# Altium integrated library TI_Logic_Flip-Flop,Latch,Register.IntLib: 2598 symbols (part 118 of 122)
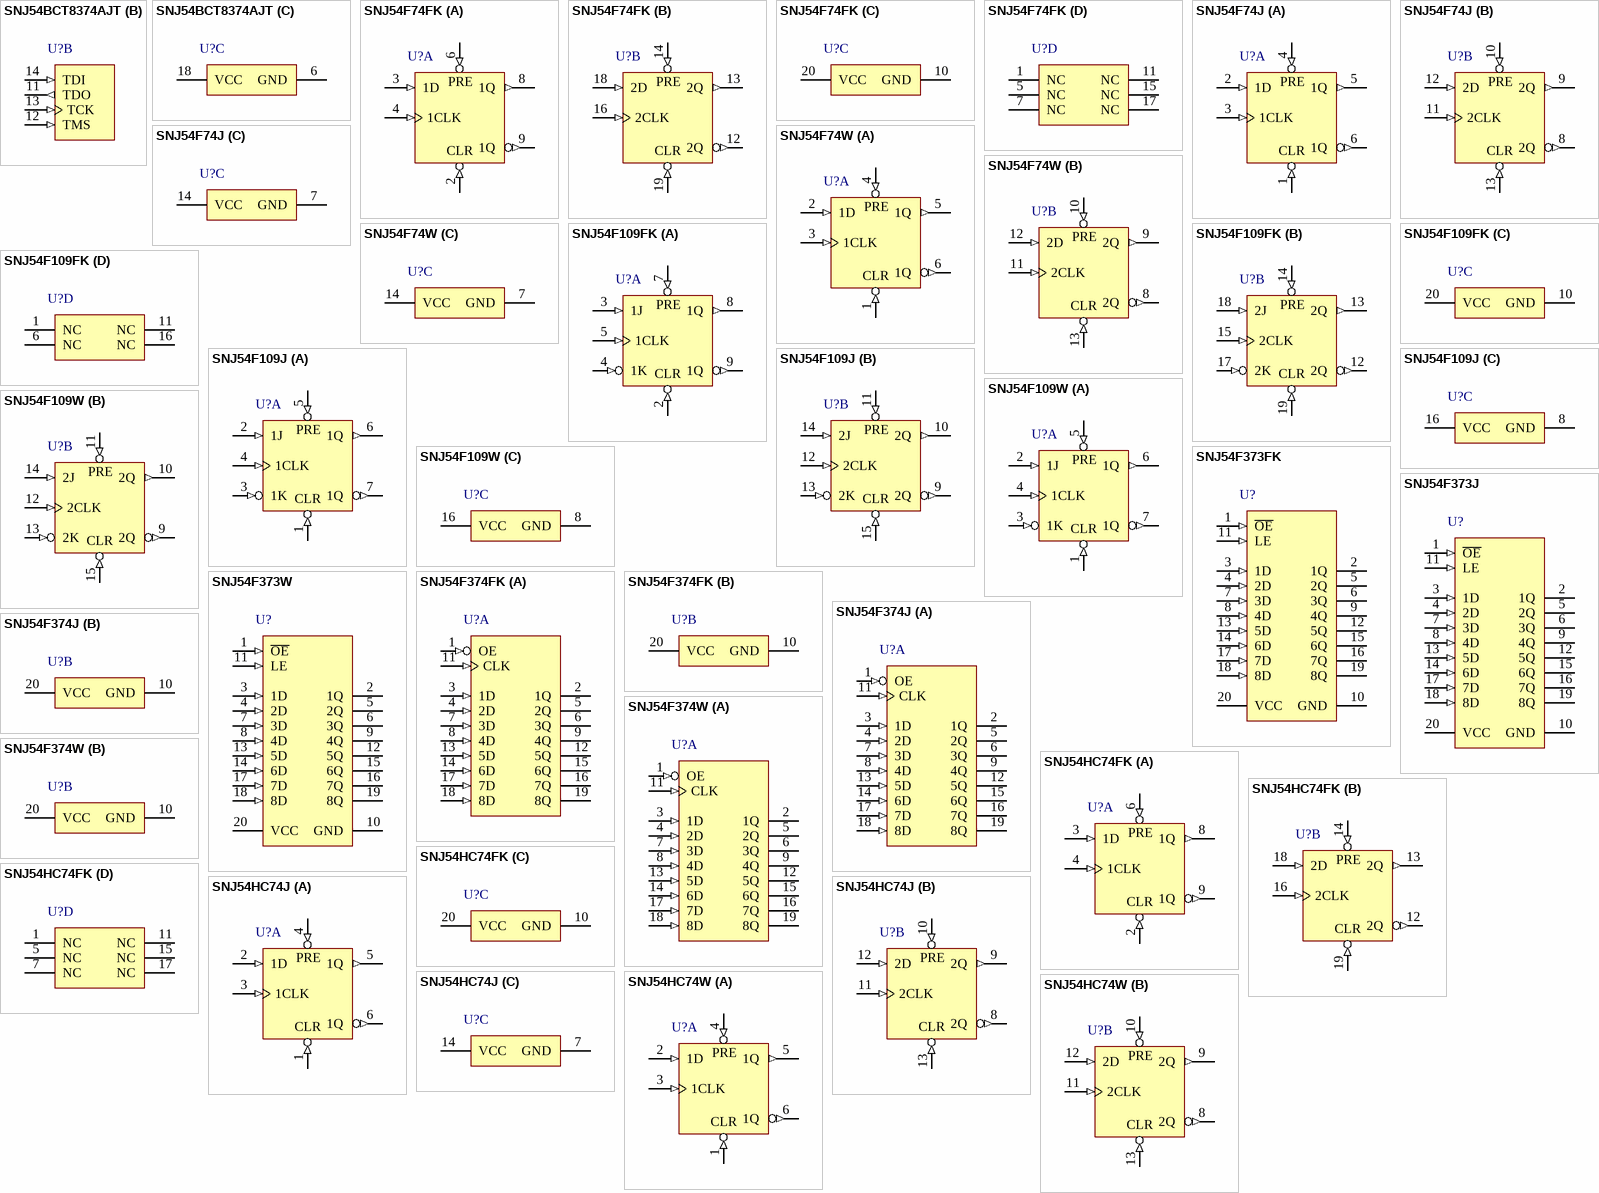
[diagram p256: symbols SNJ54BCT8374AJT to SNJ54HC74W]

## SNJ54HC74FK
designator U?
Dual D-type Positive-Edge-Triggered Flip-Flops With Clear And Preset, FK0020A, TUBE; Generic Part Number: SN54HC74; Manufacturer: Texas Instruments; PartNumber: SNJ54HC74FK; VCC(Min)(V): 2; VCC(Max)(V): 6; Output Type: CMOS; Output: 3S; ICC @ Nom Voltage(Max)(mA): 0.04; F @ Nom Voltage(Max)(Mhz): 28; Rating: Military; Technology Family: HC; Voltage(Nom)(V): 3.3,5; Schmitt Trigger: No; Output Drive (IOL/IOH)(Max)(mA): 5.2/-5.2; Output Logic: Inverted,Non-inverted; tpd @ Nom Voltage(Max)(ns): 37; DatasheetVersion: SCLS094D; PackageReference: FK0020A; Input Type: CMOS; Bits(#): 2; Operating Temperature Range(C): -55 to 125; 3-State Output: No; Code_JEDEC: MS-004; ComponentLink1Description: Manufacturer URL; ComponentLink1URL: http://www.ti.com/; ComponentLink2Description: Datasheet; ComponentLink2URL: http://www.ti.com/lit/ds/symlink/sn54hc74.pdf; ComponentLink3Description: Package Specification; ComponentLink3URL: http://www.ti.com/lit/ml/mlcc006d/mlcc006d.pdf
footprint FK0020A_N (LCC, 20-Leads, Body 8.9x8.9mm, Pitch 1.27mm, IPC Medium Density)
footprint FK0020A_M (LCC, 20-Leads, Body 8.9x8.9mm, Pitch 1.27mm, IPC Low Density)
footprint FK0020A_L (LCC, 20-Leads, Body 8.9x8.9mm, Pitch 1.27mm, IPC High Density)
part A pins: 2 1~{CLR} (in), 3 1D (in), 4 1CLK (in), 6 1~{PRE} (in), 8 1Q (out), 9 1Q (out)
part B pins: 12 2Q (out), 13 2Q (out), 14 2~{PRE} (in), 16 2CLK (in), 18 2D (in), 19 2~{CLR} (in)
part C pins: 10 GND (power), 20 VCC (power)
part D pins: 1 NC, 5 NC, 7 NC, 11 NC, 15 NC, 17 NC
part A text: PRE; CLR
part B text: PRE; CLR

## SNJ54HC74J
designator U?
Dual D-type Positive-Edge-Triggered Flip-Flops With Clear And Preset, J0014A, TUBE; Generic Part Number: SN54HC74; Manufacturer: Texas Instruments; PartNumber: SNJ54HC74J; VCC(Min)(V): 2; VCC(Max)(V): 6; Output Type: CMOS; Output: 3S; ICC @ Nom Voltage(Max)(mA): 0.04; F @ Nom Voltage(Max)(Mhz): 28; Rating: Military; Technology Family: HC; Voltage(Nom)(V): 3.3,5; Schmitt Trigger: No; Output Drive (IOL/IOH)(Max)(mA): 5.2/-5.2; Output Logic: Inverted,Non-inverted; tpd @ Nom Voltage(Max)(ns): 37; DatasheetVersion: SCLS094D; PackageReference: J0014A; Supplier 1: Newark; Supplier Part Number 1: 92B9591; Input Type: CMOS; Bits(#): 2; Operating Temperature Range(C): -55 to 125; 3-State Output: No; ComponentLink1Description: Manufacturer URL; ComponentLink1URL: http://www.ti.com/; ComponentLink2Description: Datasheet; ComponentLink2URL: http://www.ti.com/lit/ds/symlink/sn54hc74.pdf; ComponentLink3Description: Package Specification; ComponentLink3URL: http://www.ti.com/lit/ml/mcer002d/mcer002d.pdf
footprint J0014A (DIP, 14-Leads, Body 19.95x7.2mm, Pitch 2.54mm)
part A pins: 1 1~{CLR} (in), 2 1D (in), 3 1CLK (in), 4 1~{PRE} (in), 5 1Q (out), 6 1Q (out)
part B pins: 8 2Q (out), 9 2Q (out), 10 2~{PRE} (in), 11 2CLK (in), 12 2D (in), 13 2~{CLR} (in)
part C pins: 7 GND (power), 14 VCC (power)
part A text: PRE; CLR
part B text: PRE; CLR

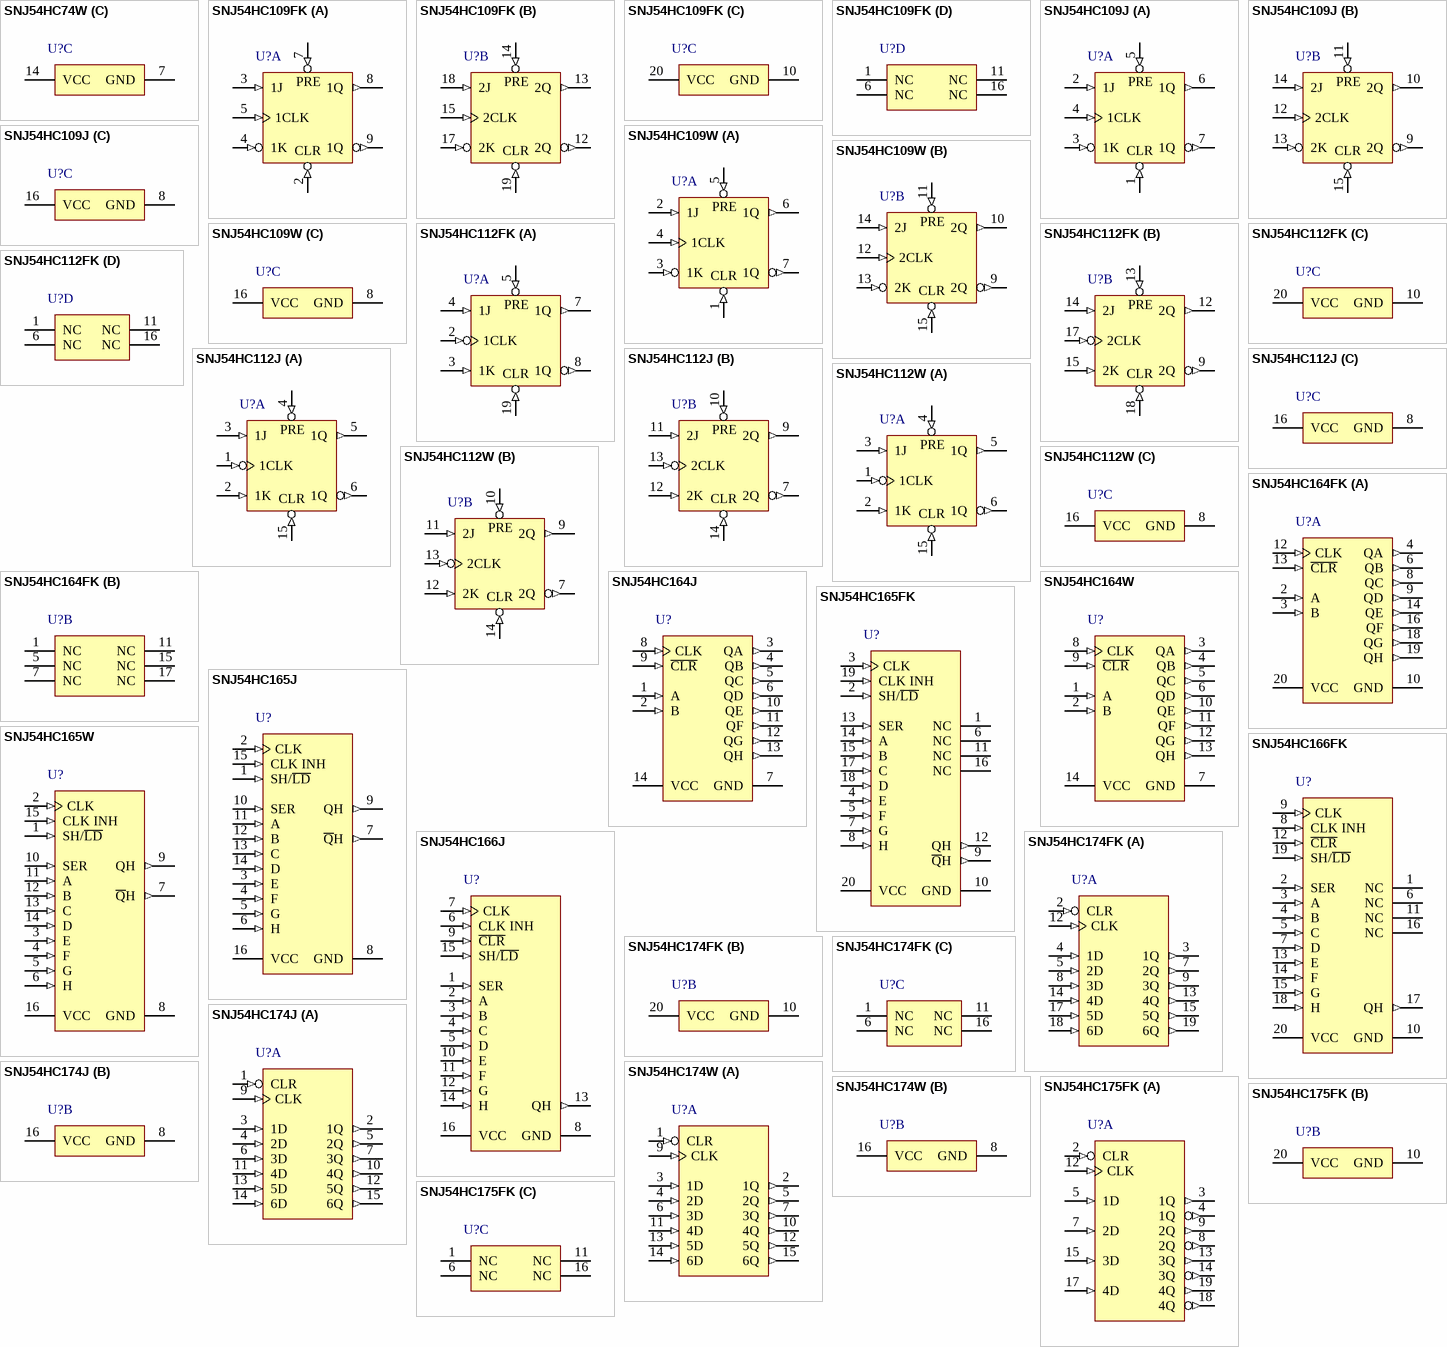
[diagram p131: symbols SNJ54HC74W to SNJ54HC175FK]

## SNJ54HC74W
designator U?
Dual D-type Positive-Edge-Triggered Flip-Flops With Clear And Preset, W0014A, TUBE; Generic Part Number: SN54HC74; Manufacturer: Texas Instruments; PartNumber: SNJ54HC74W; VCC(Min)(V): 2; VCC(Max)(V): 6; Output Type: CMOS; Output: 3S; ICC @ Nom Voltage(Max)(mA): 0.04; F @ Nom Voltage(Max)(Mhz): 28; Rating: Military; Technology Family: HC; Voltage(Nom)(V): 3.3,5; Schmitt Trigger: No; Output Drive (IOL/IOH)(Max)(mA): 5.2/-5.2; Output Logic: Inverted,Non-inverted; tpd @ Nom Voltage(Max)(ns): 37; DatasheetVersion: SCLS094D; PackageReference: W0014A; Input Type: CMOS; Bits(#): 2; Operating Temperature Range(C): -55 to 125; 3-State Output: No; ComponentLink1Description: Manufacturer URL; ComponentLink1URL: http://www.ti.com/; ComponentLink2Description: Datasheet; ComponentLink2URL: http://www.ti.com/lit/ds/symlink/sn54hc74.pdf; ComponentLink3Description: Package Specification; ComponentLink3URL: http://www.ti.com/lit/ml/mcfp002c/mcfp002c.pdf
footprint W0014A_N (CFP, 14-Leads, Body 9.91x6.6mm, Pitch 1.27mm, IPC Medium Density)
footprint W0014A_M (CFP, 14-Leads, Body 9.91x6.6mm, Pitch 1.27mm, IPC Low Density)
footprint W0014A_L (CFP, 14-Leads, Body 9.91x6.6mm, Pitch 1.27mm, IPC High Density)
part A pins: 1 1~{CLR} (in), 2 1D (in), 3 1CLK (in), 4 1~{PRE} (in), 5 1Q (out), 6 1Q (out)
part B pins: 8 2Q (out), 9 2Q (out), 10 2~{PRE} (in), 11 2CLK (in), 12 2D (in), 13 2~{CLR} (in)
part C pins: 7 GND (power), 14 VCC (power)
part A text: PRE; CLR
part B text: PRE; CLR

## SNJ54HC109FK
designator U?
Dual J-K Positive-Edge-Triggered Flip-Flops With Clear And Preset, FK0020A, TUBE; Generic Part Number: SN54HC109; Manufacturer: Texas Instruments; PartNumber: SNJ54HC109FK; VCC(Min)(V): 2; VCC(Max)(V): 6; Output Type: CMOS; Output: 2S; Rating: Military; Technology Family: HC; Schmitt Trigger: No; DatasheetVersion: SCLS470A; PackageReference: FK0020A; Input Type: CMOS; Bits(#): 2; Operating Temperature Range(C): -55 to 125; Code_JEDEC: MS-004; ComponentLink1Description: Manufacturer URL; ComponentLink1URL: http://www.ti.com/; ComponentLink2Description: Datasheet; ComponentLink2URL: http://www.ti.com/lit/ds/symlink/sn54hc109.pdf; ComponentLink3Description: Package Specification; ComponentLink3URL: http://www.ti.com/lit/ml/mlcc006d/mlcc006d.pdf
footprint FK0020A_N (LCC, 20-Leads, Body 8.9x8.9mm, Pitch 1.27mm, IPC Medium Density)
footprint FK0020A_M (LCC, 20-Leads, Body 8.9x8.9mm, Pitch 1.27mm, IPC Low Density)
footprint FK0020A_L (LCC, 20-Leads, Body 8.9x8.9mm, Pitch 1.27mm, IPC High Density)
part A pins: 2 1~{CLR} (in), 3 1J (in), 4 1K (in), 5 1CLK (in), 7 1~{PRE} (in), 8 1Q (out), 9 1Q (out)
part B pins: 12 2Q (out), 13 2Q (out), 14 2~{PRE} (in), 15 2CLK (in), 17 2K (in), 18 2J (in), 19 2~{CLR} (in)
part C pins: 10 GND (power), 20 VCC (power)
part D pins: 1 NC, 6 NC, 11 NC, 16 NC
part A text: PRE; CLR
part B text: PRE; CLR

## SNJ54HC109J
designator U?
Dual J-K Positive-Edge-Triggered Flip-Flops With Clear And Preset, J0016A, TUBE; Generic Part Number: SN54HC109; Manufacturer: Texas Instruments; PartNumber: SNJ54HC109J; VCC(Min)(V): 2; VCC(Max)(V): 6; Output Type: CMOS; Output: 2S; Rating: Military; Technology Family: HC; Schmitt Trigger: No; DatasheetVersion: SCLS470A; PackageReference: J0016A; Input Type: CMOS; Bits(#): 2; Operating Temperature Range(C): -55 to 125; ComponentLink1Description: Manufacturer URL; ComponentLink1URL: http://www.ti.com/; ComponentLink2Description: Datasheet; ComponentLink2URL: http://www.ti.com/lit/ds/symlink/sn54hc109.pdf; ComponentLink3Description: Package Specification; ComponentLink3URL: http://www.ti.com/lit/ml/mcer002d/mcer002d.pdf
footprint J0016A (DIP, 16-Leads, Body 21.35x7.2mm, Pitch 2.54mm)
part A pins: 1 1~{CLR} (in), 2 1J (in), 3 1K (in), 4 1CLK (in), 5 1~{PRE} (in), 6 1Q (out), 7 1Q (out)
part B pins: 9 2Q (out), 10 2Q (out), 11 2~{PRE} (in), 12 2CLK (in), 13 2K (in), 14 2J (in), 15 2~{CLR} (in)
part C pins: 8 GND (power), 16 VCC (power)
part A text: PRE; CLR
part B text: PRE; CLR

## SNJ54HC109W
designator U?
Dual J-K Positive-Edge-Triggered Flip-Flops With Clear And Preset, W0016A, TUBE; Generic Part Number: SN54HC109; Manufacturer: Texas Instruments; PartNumber: SNJ54HC109W; VCC(Min)(V): 2; VCC(Max)(V): 6; Output Type: CMOS; Output: 2S; Rating: Military; Technology Family: HC; Schmitt Trigger: No; DatasheetVersion: SCLS470A; PackageReference: W0016A; Input Type: CMOS; Bits(#): 2; Operating Temperature Range(C): -55 to 125; ComponentLink1Description: Manufacturer URL; ComponentLink1URL: http://www.ti.com/; ComponentLink2Description: Datasheet; ComponentLink2URL: http://www.ti.com/lit/ds/symlink/sn54hc109.pdf; ComponentLink3Description: Package Specification; ComponentLink3URL: http://www.ti.com/lit/ml/mcfp004c/mcfp004c.pdf
footprint W0016A_N (CFP, 16-Leads, Body 10.92x7.24mm, Pitch 1.27mm, IPC Medium Density)
footprint W0016A_M (CFP, 16-Leads, Body 10.92x7.24mm, Pitch 1.27mm, IPC Low Density)
footprint W0016A_L (CFP, 16-Leads, Body 10.92x7.24mm, Pitch 1.27mm, IPC High Density)
part A pins: 1 1~{CLR} (in), 2 1J (in), 3 1K (in), 4 1CLK (in), 5 1~{PRE} (in), 6 1Q (out), 7 1Q (out)
part B pins: 9 2Q (out), 10 2Q (out), 11 2~{PRE} (in), 12 2CLK (in), 13 2K (in), 14 2J (in), 15 2~{CLR} (in)
part C pins: 8 GND (power), 16 VCC (power)
part A text: PRE; CLR
part B text: PRE; CLR

## SNJ54HC112FK
designator U?
Dual J-K Negative-Edge-Triggered Flip-Flops With Clear And Preset, FK0020A, TUBE; Generic Part Number: SN54HC112; Manufacturer: Texas Instruments; PartNumber: SNJ54HC112FK; VCC(Min)(V): 2; VCC(Max)(V): 6; Output Type: CMOS; Output: 2S; Rating: Military; Technology Family: HC; Schmitt Trigger: No; DatasheetVersion: SCLS099F; PackageReference: FK0020A; Input Type: CMOS; Bits(#): 2; Operating Temperature Range(C): -55 to 125; Code_JEDEC: MS-004; ComponentLink1Description: Manufacturer URL; ComponentLink1URL: http://www.ti.com/; ComponentLink2Description: Datasheet; ComponentLink2URL: http://www.ti.com/lit/ds/symlink/sn54hc112.pdf; ComponentLink3Description: Package Specification; ComponentLink3URL: http://www.ti.com/lit/ml/mlcc006d/mlcc006d.pdf
footprint FK0020A_N (LCC, 20-Leads, Body 8.9x8.9mm, Pitch 1.27mm, IPC Medium Density)
footprint FK0020A_M (LCC, 20-Leads, Body 8.9x8.9mm, Pitch 1.27mm, IPC Low Density)
footprint FK0020A_L (LCC, 20-Leads, Body 8.9x8.9mm, Pitch 1.27mm, IPC High Density)
part A pins: 2 1CLK (in), 3 1K (in), 4 1J (in), 5 1~{PRE} (in), 7 1Q (out), 8 1Q (out), 19 1~{CLR} (in)
part B pins: 9 2Q (out), 12 2Q (out), 13 2~{PRE} (in), 14 2J (in), 15 2K (in), 17 2CLK (in), 18 2~{CLR} (in)
part C pins: 10 GND (power), 20 VCC (power)
part D pins: 1 NC, 6 NC, 11 NC, 16 NC
part A text: PRE; CLR
part B text: PRE; CLR

## SNJ54HC112J
designator U?
Dual J-K Negative-Edge-Triggered Flip-Flops With Clear And Preset, J0016A, TUBE; Generic Part Number: SN54HC112; Manufacturer: Texas Instruments; PartNumber: SNJ54HC112J; VCC(Min)(V): 2; VCC(Max)(V): 6; Output Type: CMOS; Output: 2S; Rating: Military; Technology Family: HC; Schmitt Trigger: No; DatasheetVersion: SCLS099F; PackageReference: J0016A; Input Type: CMOS; Bits(#): 2; Operating Temperature Range(C): -55 to 125; ComponentLink1Description: Manufacturer URL; ComponentLink1URL: http://www.ti.com/; ComponentLink2Description: Datasheet; ComponentLink2URL: http://www.ti.com/lit/ds/symlink/sn54hc112.pdf; ComponentLink3Description: Package Specification; ComponentLink3URL: http://www.ti.com/lit/ml/mcer002d/mcer002d.pdf
footprint J0016A (DIP, 16-Leads, Body 21.35x7.2mm, Pitch 2.54mm)
part A pins: 1 1CLK (in), 2 1K (in), 3 1J (in), 4 1~{PRE} (in), 5 1Q (out), 6 1Q (out), 15 1~{CLR} (in)
part B pins: 7 2Q (out), 9 2Q (out), 10 2~{PRE} (in), 11 2J (in), 12 2K (in), 13 2CLK (in), 14 2~{CLR} (in)
part C pins: 8 GND (power), 16 VCC (power)
part A text: PRE; CLR
part B text: PRE; CLR

## SNJ54HC112W
designator U?
Dual J-K Negative-Edge-Triggered Flip-Flops With Clear And Preset, W0016A, TUBE; Generic Part Number: SN54HC112; Manufacturer: Texas Instruments; PartNumber: SNJ54HC112W; VCC(Min)(V): 2; VCC(Max)(V): 6; Output Type: CMOS; Output: 2S; Rating: Military; Technology Family: HC; Schmitt Trigger: No; DatasheetVersion: SCLS099F; PackageReference: W0016A; Input Type: CMOS; Bits(#): 2; Operating Temperature Range(C): -55 to 125; ComponentLink1Description: Manufacturer URL; ComponentLink1URL: http://www.ti.com/; ComponentLink2Description: Datasheet; ComponentLink2URL: http://www.ti.com/lit/ds/symlink/sn54hc112.pdf; ComponentLink3Description: Package Specification; ComponentLink3URL: http://www.ti.com/lit/ml/mcfp004c/mcfp004c.pdf
footprint W0016A_N (CFP, 16-Leads, Body 10.92x7.24mm, Pitch 1.27mm, IPC Medium Density)
footprint W0016A_M (CFP, 16-Leads, Body 10.92x7.24mm, Pitch 1.27mm, IPC Low Density)
footprint W0016A_L (CFP, 16-Leads, Body 10.92x7.24mm, Pitch 1.27mm, IPC High Density)
part A pins: 1 1CLK (in), 2 1K (in), 3 1J (in), 4 1~{PRE} (in), 5 1Q (out), 6 1Q (out), 15 1~{CLR} (in)
part B pins: 7 2Q (out), 9 2Q (out), 10 2~{PRE} (in), 11 2J (in), 12 2K (in), 13 2CLK (in), 14 2~{CLR} (in)
part C pins: 8 GND (power), 16 VCC (power)
part A text: PRE; CLR
part B text: PRE; CLR

## SNJ54HC164FK
designator U?
8-Bit Parallel-Out Serial Shift Registers, FK0020A, TUBE; Generic Part Number: SN54HC164; Manufacturer: Texas Instruments; PartNumber: SNJ54HC164FK; Technology Family: HC; VCC(Min)(V): 2; VCC(Max)(V): 6; F @ Nom Voltage(Max)(Mhz): 28; ICC @ Nom Voltage(Max)(mA): 0.08; tpd @ Nom Voltage(Max)(ns): 38; Output Drive (IOL/IOH)(Max)(mA): 5.2/-5.2; Input Type: CMOS; 3-State Output: No; Rating: Military; DatasheetVersion: SCLS115F; PackageReference: FK0020A; Voltage(Nom)(V): 6; Output Type: CMOS; Operating Temperature Range(C): -55 to 125; Code_JEDEC: MS-004; ComponentLink1Description: Manufacturer URL; ComponentLink1URL: http://www.ti.com/; ComponentLink2Description: Datasheet; ComponentLink2URL: http://www.ti.com/lit/ds/symlink/sn54hc164.pdf; ComponentLink3Description: Package Specification; ComponentLink3URL: http://www.ti.com/lit/ml/mlcc006d/mlcc006d.pdf
footprint FK0020A_N (LCC, 20-Leads, Body 8.9x8.9mm, Pitch 1.27mm, IPC Medium Density)
footprint FK0020A_M (LCC, 20-Leads, Body 8.9x8.9mm, Pitch 1.27mm, IPC Low Density)
footprint FK0020A_L (LCC, 20-Leads, Body 8.9x8.9mm, Pitch 1.27mm, IPC High Density)
part A pins: 2 A (in), 3 B (in), 4 QA (out), 6 QB (out), 8 QC (out), 9 QD (out), 10 GND (power), 12 CLK (in), 13 ~{CLR} (in), 14 QE (out), 16 QF (out), 18 QG (out), 19 QH (out), 20 VCC (power)
part B pins: 1 NC, 5 NC, 7 NC, 11 NC, 15 NC, 17 NC

## SNJ54HC164J
designator U?
8-Bit Parallel-Out Serial Shift Registers, J0014A, TUBE; Generic Part Number: SN54HC164; Manufacturer: Texas Instruments; PartNumber: SNJ54HC164J; Technology Family: HC; VCC(Min)(V): 2; VCC(Max)(V): 6; F @ Nom Voltage(Max)(Mhz): 28; ICC @ Nom Voltage(Max)(mA): 0.08; tpd @ Nom Voltage(Max)(ns): 38; Output Drive (IOL/IOH)(Max)(mA): 5.2/-5.2; Input Type: CMOS; 3-State Output: No; Rating: Military; DatasheetVersion: SCLS115F; PackageReference: J0014A; Voltage(Nom)(V): 6; Output Type: CMOS; Operating Temperature Range(C): -55 to 125; ComponentLink1Description: Manufacturer URL; ComponentLink1URL: http://www.ti.com/; ComponentLink2Description: Datasheet; ComponentLink2URL: http://www.ti.com/lit/ds/symlink/sn54hc164.pdf; ComponentLink3Description: Package Specification; ComponentLink3URL: http://www.ti.com/lit/ml/mcer002d/mcer002d.pdf
footprint J0014A (DIP, 14-Leads, Body 19.95x7.2mm, Pitch 2.54mm)
pins: 1 A (in) "Serial input A", 2 B (in) "Serial input B", 3 QA (out) "Output A", 4 QB (out) "Output B", 5 QC (out) "Output C", 6 QD (out) "Output D", 7 GND (power) "Ground pin", 8 CLK (in) "Storage clock", 9 ~{CLR} (in) "Storage clear", 10 QE (out) "Output E", 11 QF (out) "Output F", 12 QG (out) "Output G", 13 QH (out) "Output H", 14 VCC (power) "Power pin"

## SNJ54HC164W
designator U?
8-Bit Parallel-Out Serial Shift Registers, W0014A, TUBE; Generic Part Number: SN54HC164; Manufacturer: Texas Instruments; PartNumber: SNJ54HC164W; Technology Family: HC; VCC(Min)(V): 2; VCC(Max)(V): 6; F @ Nom Voltage(Max)(Mhz): 28; ICC @ Nom Voltage(Max)(mA): 0.08; tpd @ Nom Voltage(Max)(ns): 38; Output Drive (IOL/IOH)(Max)(mA): 5.2/-5.2; Input Type: CMOS; 3-State Output: No; Rating: Military; DatasheetVersion: SCLS115F; PackageReference: W0014A; Voltage(Nom)(V): 6; Output Type: CMOS; Operating Temperature Range(C): -55 to 125; ComponentLink1Description: Manufacturer URL; ComponentLink1URL: http://www.ti.com/; ComponentLink2Description: Datasheet; ComponentLink2URL: http://www.ti.com/lit/ds/symlink/sn54hc164.pdf; ComponentLink3Description: Package Specification; ComponentLink3URL: http://www.ti.com/lit/ml/mcfp002c/mcfp002c.pdf
footprint W0014A_N (CFP, 14-Leads, Body 9.91x6.6mm, Pitch 1.27mm, IPC Medium Density)
footprint W0014A_M (CFP, 14-Leads, Body 9.91x6.6mm, Pitch 1.27mm, IPC Low Density)
footprint W0014A_L (CFP, 14-Leads, Body 9.91x6.6mm, Pitch 1.27mm, IPC High Density)
pins: 1 A (in) "Serial input A", 2 B (in) "Serial input B", 3 QA (out) "Output A", 4 QB (out) "Output B", 5 QC (out) "Output C", 6 QD (out) "Output D", 7 GND (power) "Ground pin", 8 CLK (in) "Storage clock", 9 ~{CLR} (in) "Storage clear", 10 QE (out) "Output E", 11 QF (out) "Output F", 12 QG (out) "Output G", 13 QH (out) "Output H", 14 VCC (power) "Power pin"

## SNJ54HC165FK
designator U?
Parallel-Load 8-Bit Shift Registers, FK0020A, TUBE; Generic Part Number: SN54HC165; Manufacturer: Texas Instruments; PartNumber: SNJ54HC165FK; Technology Family: HC; VCC(Min)(V): 2; VCC(Max)(V): 6; F @ Nom Voltage(Max)(Mhz): 28; ICC @ Nom Voltage(Max)(mA): 0.08; tpd @ Nom Voltage(Max)(ns): 38; Output Drive (IOL/IOH)(Max)(mA): 5.2/-5.2; Input Type: CMOS; 3-State Output: No; Rating: Military; DatasheetVersion: SCLS116G; PackageReference: FK0020A; Voltage(Nom)(V): 6; Output Type: CMOS; Operating Temperature Range(C): -55 to 125; Code_JEDEC: MS-004; ComponentLink1Description: Manufacturer URL; ComponentLink1URL: http://www.ti.com/; ComponentLink2Description: Datasheet; ComponentLink2URL: http://www.ti.com/lit/ds/symlink/sn54hc165.pdf; ComponentLink3Description: Package Specification; ComponentLink3URL: http://www.ti.com/lit/ml/mlcc006d/mlcc006d.pdf
footprint FK0020A_N (LCC, 20-Leads, Body 8.9x8.9mm, Pitch 1.27mm, IPC Medium Density)
footprint FK0020A_M (LCC, 20-Leads, Body 8.9x8.9mm, Pitch 1.27mm, IPC Low Density)
footprint FK0020A_L (LCC, 20-Leads, Body 8.9x8.9mm, Pitch 1.27mm, IPC High Density)
pins: 1 NC, 2 SH/~{LD} (in), 3 CLK (in), 4 E (in), 5 F (in), 6 NC, 7 G (in), 8 H (in), 9 ~{Q}H (out), 10 GND (power), 11 NC, 12 QH (out), 13 SER (in), 14 A (in), 15 B (in), 16 NC, 17 C (in), 18 D (in), 19 CLK INH (in), 20 VCC (power)

## SNJ54HC165J
designator U?
Parallel-Load 8-Bit Shift Registers, J0016A, TUBE; Generic Part Number: SN54HC165; Manufacturer: Texas Instruments; PartNumber: SNJ54HC165J; Technology Family: HC; VCC(Min)(V): 2; VCC(Max)(V): 6; F @ Nom Voltage(Max)(Mhz): 28; ICC @ Nom Voltage(Max)(mA): 0.08; tpd @ Nom Voltage(Max)(ns): 38; Output Drive (IOL/IOH)(Max)(mA): 5.2/-5.2; Input Type: CMOS; 3-State Output: No; Rating: Military; DatasheetVersion: SCLS116G; PackageReference: J0016A; Voltage(Nom)(V): 6; Output Type: CMOS; Operating Temperature Range(C): -55 to 125; ComponentLink1Description: Manufacturer URL; ComponentLink1URL: http://www.ti.com/; ComponentLink2Description: Datasheet; ComponentLink2URL: http://www.ti.com/lit/ds/symlink/sn54hc165.pdf; ComponentLink3Description: Package Specification; ComponentLink3URL: http://www.ti.com/lit/ml/mcer002d/mcer002d.pdf
footprint J0016A (DIP, 16-Leads, Body 21.35x7.2mm, Pitch 2.54mm)
pins: 1 SH/~{LD} (in), 2 CLK (in), 3 E (in), 4 F (in), 5 G (in), 6 H (in), 7 ~{Q}H (out), 8 GND (power), 9 QH (out), 10 SER (in), 11 A (in), 12 B (in), 13 C (in), 14 D (in), 15 CLK INH (in), 16 VCC (power)

## SNJ54HC165W
designator U?
Parallel-Load 8-Bit Shift Registers, W0016A, TUBE; Generic Part Number: SN54HC165; Manufacturer: Texas Instruments; PartNumber: SNJ54HC165W; Technology Family: HC; VCC(Min)(V): 2; VCC(Max)(V): 6; F @ Nom Voltage(Max)(Mhz): 28; ICC @ Nom Voltage(Max)(mA): 0.08; tpd @ Nom Voltage(Max)(ns): 38; Output Drive (IOL/IOH)(Max)(mA): 5.2/-5.2; Input Type: CMOS; 3-State Output: No; Rating: Military; DatasheetVersion: SCLS116G; PackageReference: W0016A; Voltage(Nom)(V): 6; Output Type: CMOS; Operating Temperature Range(C): -55 to 125; ComponentLink1Description: Manufacturer URL; ComponentLink1URL: http://www.ti.com/; ComponentLink2Description: Datasheet; ComponentLink2URL: http://www.ti.com/lit/ds/symlink/sn54hc165.pdf; ComponentLink3Description: Package Specification; ComponentLink3URL: http://www.ti.com/lit/ml/mcfp004c/mcfp004c.pdf
footprint W0016A_N (CFP, 16-Leads, Body 10.92x7.24mm, Pitch 1.27mm, IPC Medium Density)
footprint W0016A_M (CFP, 16-Leads, Body 10.92x7.24mm, Pitch 1.27mm, IPC Low Density)
footprint W0016A_L (CFP, 16-Leads, Body 10.92x7.24mm, Pitch 1.27mm, IPC High Density)
pins: 1 SH/~{LD} (in), 2 CLK (in), 3 E (in), 4 F (in), 5 G (in), 6 H (in), 7 ~{Q}H (out), 8 GND (power), 9 QH (out), 10 SER (in), 11 A (in), 12 B (in), 13 C (in), 14 D (in), 15 CLK INH (in), 16 VCC (power)

## SNJ54HC166FK
designator U?
Parallel-Load 8-Bit Shift Registers, FK0020A, TUBE; Generic Part Number: SN54HC166; Manufacturer: Texas Instruments; PartNumber: SNJ54HC166FK; Technology Family: HC; VCC(Min)(V): 2; VCC(Max)(V): 6; F @ Nom Voltage(Max)(Mhz): 28; ICC @ Nom Voltage(Max)(mA): 0.08; tpd @ Nom Voltage(Max)(ns): 32; Output Drive (IOL/IOH)(Max)(mA): 5.2/-5.2; Input Type: CMOS; 3-State Output: No; Rating: Military; DatasheetVersion: SCLS117D; PackageReference: FK0020A; Voltage(Nom)(V): 6; Output Type: CMOS; Operating Temperature Range(C): -55 to 125; Code_JEDEC: MS-004; ComponentLink1Description: Manufacturer URL; ComponentLink1URL: http://www.ti.com/; ComponentLink2Description: Datasheet; ComponentLink2URL: http://www.ti.com/lit/ds/symlink/sn54hc166.pdf; ComponentLink3Description: Package Specification; ComponentLink3URL: http://www.ti.com/lit/ml/mlcc006d/mlcc006d.pdf
footprint FK0020A_N (LCC, 20-Leads, Body 8.9x8.9mm, Pitch 1.27mm, IPC Medium Density)
footprint FK0020A_M (LCC, 20-Leads, Body 8.9x8.9mm, Pitch 1.27mm, IPC Low Density)
footprint FK0020A_L (LCC, 20-Leads, Body 8.9x8.9mm, Pitch 1.27mm, IPC High Density)
pins: 1 NC, 2 SER (in), 3 A (in), 4 B (in), 5 C (in), 6 NC, 7 D (in), 8 CLK INH (in), 9 CLK (in), 10 GND (power), 11 NC, 12 ~{CLR} (in), 13 E (in), 14 F (in), 15 G (in), 16 NC, 17 QH (out), 18 H (in), 19 SH/~{LD} (in), 20 VCC (power)

## SNJ54HC166J
designator U?
Parallel-Load 8-Bit Shift Registers, J0016A, TUBE; Generic Part Number: SN54HC166; Manufacturer: Texas Instruments; PartNumber: SNJ54HC166J; Technology Family: HC; VCC(Min)(V): 2; VCC(Max)(V): 6; F @ Nom Voltage(Max)(Mhz): 28; ICC @ Nom Voltage(Max)(mA): 0.08; tpd @ Nom Voltage(Max)(ns): 32; Output Drive (IOL/IOH)(Max)(mA): 5.2/-5.2; Input Type: CMOS; 3-State Output: No; Rating: Military; DatasheetVersion: SCLS117D; PackageReference: J0016A; Voltage(Nom)(V): 6; Output Type: CMOS; Operating Temperature Range(C): -55 to 125; ComponentLink1Description: Manufacturer URL; ComponentLink1URL: http://www.ti.com/; ComponentLink2Description: Datasheet; ComponentLink2URL: http://www.ti.com/lit/ds/symlink/sn54hc166.pdf; ComponentLink3Description: Package Specification; ComponentLink3URL: http://www.ti.com/lit/ml/mcer002d/mcer002d.pdf
footprint J0016A (DIP, 16-Leads, Body 21.35x7.2mm, Pitch 2.54mm)
pins: 1 SER (in), 2 A (in), 3 B (in), 4 C (in), 5 D (in), 6 CLK INH (in), 7 CLK (in), 8 GND (power), 9 ~{CLR} (in), 10 E (in), 11 F (in), 12 G (in), 13 QH (out), 14 H (in), 15 SH/~{LD} (in), 16 VCC (power)

## SNJ54HC174FK
designator U?
Hex D-type Flip-Flops With Clear, FK0020A, TUBE; Generic Part Number: SN54HC174; Manufacturer: Texas Instruments; PartNumber: SNJ54HC174FK; VCC(Min)(V): 2; VCC(Max)(V): 6; Output Type: CMOS; Output: 2S; ICC @ Nom Voltage(Max)(mA): 0.08; F @ Nom Voltage(Max)(Mhz): 28; Rating: Military; Technology Family: HC; Voltage(Nom)(V): 3.3,5; Schmitt Trigger: No; Output Drive (IOL/IOH)(Max)(mA): 5.2/-5.2; Output Logic: Non-inverted; tpd @ Nom Voltage(Max)(ns): 34; DatasheetVersion: SCLS119D; PackageReference: FK0020A; Input Type: CMOS; Bits(#): 6; Operating Temperature Range(C): -55 to 125; 3-State Output: No; Code_JEDEC: MS-004; ComponentLink1Description: Manufacturer URL; ComponentLink1URL: http://www.ti.com/; ComponentLink2Description: Datasheet; ComponentLink2URL: http://www.ti.com/lit/ds/symlink/sn54hc174.pdf; ComponentLink3Description: Package Specification; ComponentLink3URL: http://www.ti.com/lit/ml/mlcc006d/mlcc006d.pdf
footprint FK0020A_N (LCC, 20-Leads, Body 8.9x8.9mm, Pitch 1.27mm, IPC Medium Density)
footprint FK0020A_M (LCC, 20-Leads, Body 8.9x8.9mm, Pitch 1.27mm, IPC Low Density)
footprint FK0020A_L (LCC, 20-Leads, Body 8.9x8.9mm, Pitch 1.27mm, IPC High Density)
part A pins: 2 CLR (in), 3 1Q (out), 4 1D (in), 5 2D (in), 7 2Q (out), 8 3D (in), 9 3Q (out), 12 CLK (in), 13 4Q (out), 14 4D (in), 15 5Q (out), 17 5D (in), 18 6D (in), 19 6Q (out)
part B pins: 10 GND (power), 20 VCC (power)
part C pins: 1 NC, 6 NC, 11 NC, 16 NC

## SNJ54HC174J
designator U?
Hex D-type Flip-Flops With Clear, J0016A, TUBE; Generic Part Number: SN54HC174; Manufacturer: Texas Instruments; PartNumber: SNJ54HC174J; VCC(Min)(V): 2; VCC(Max)(V): 6; Output Type: CMOS; Output: 2S; ICC @ Nom Voltage(Max)(mA): 0.08; F @ Nom Voltage(Max)(Mhz): 28; Rating: Military; Technology Family: HC; Voltage(Nom)(V): 3.3,5; Schmitt Trigger: No; Output Drive (IOL/IOH)(Max)(mA): 5.2/-5.2; Output Logic: Non-inverted; tpd @ Nom Voltage(Max)(ns): 34; DatasheetVersion: SCLS119D; PackageReference: J0016A; Input Type: CMOS; Bits(#): 6; Operating Temperature Range(C): -55 to 125; 3-State Output: No; ComponentLink1Description: Manufacturer URL; ComponentLink1URL: http://www.ti.com/; ComponentLink2Description: Datasheet; ComponentLink2URL: http://www.ti.com/lit/ds/symlink/sn54hc174.pdf; ComponentLink3Description: Package Specification; ComponentLink3URL: http://www.ti.com/lit/ml/mcer002d/mcer002d.pdf
footprint J0016A (DIP, 16-Leads, Body 21.35x7.2mm, Pitch 2.54mm)
part A pins: 1 CLR (in), 2 1Q (out), 3 1D (in), 4 2D (in), 5 2Q (out), 6 3D (in), 7 3Q (out), 9 CLK (in), 10 4Q (out), 11 4D (in), 12 5Q (out), 13 5D (in), 14 6D (in), 15 6Q (out)
part B pins: 8 GND (power), 16 VCC (power)

## SNJ54HC174W
designator U?
Hex D-type Flip-Flops With Clear, W0016A, TUBE; Generic Part Number: SN54HC174; Manufacturer: Texas Instruments; PartNumber: SNJ54HC174W; VCC(Min)(V): 2; VCC(Max)(V): 6; Output Type: CMOS; Output: 2S; ICC @ Nom Voltage(Max)(mA): 0.08; F @ Nom Voltage(Max)(Mhz): 28; Rating: Military; Technology Family: HC; Voltage(Nom)(V): 3.3,5; Schmitt Trigger: No; Output Drive (IOL/IOH)(Max)(mA): 5.2/-5.2; Output Logic: Non-inverted; tpd @ Nom Voltage(Max)(ns): 34; DatasheetVersion: SCLS119D; PackageReference: W0016A; Input Type: CMOS; Bits(#): 6; Operating Temperature Range(C): -55 to 125; 3-State Output: No; ComponentLink1Description: Manufacturer URL; ComponentLink1URL: http://www.ti.com/; ComponentLink2Description: Datasheet; ComponentLink2URL: http://www.ti.com/lit/ds/symlink/sn54hc174.pdf; ComponentLink3Description: Package Specification; ComponentLink3URL: http://www.ti.com/lit/ml/mcfp004c/mcfp004c.pdf
footprint W0016A_N (CFP, 16-Leads, Body 10.92x7.24mm, Pitch 1.27mm, IPC Medium Density)
footprint W0016A_M (CFP, 16-Leads, Body 10.92x7.24mm, Pitch 1.27mm, IPC Low Density)
footprint W0016A_L (CFP, 16-Leads, Body 10.92x7.24mm, Pitch 1.27mm, IPC High Density)
part A pins: 1 CLR (in), 2 1Q (out), 3 1D (in), 4 2D (in), 5 2Q (out), 6 3D (in), 7 3Q (out), 9 CLK (in), 10 4Q (out), 11 4D (in), 12 5Q (out), 13 5D (in), 14 6D (in), 15 6Q (out)
part B pins: 8 GND (power), 16 VCC (power)

## SNJ54HC175FK
designator U?
Quadruple D-type Flip-Flops With Clear, FK0020A, TUBE; Generic Part Number: SN54HC175; Manufacturer: Texas Instruments; PartNumber: SNJ54HC175FK; VCC(Min)(V): 2; VCC(Max)(V): 6; Output Type: CMOS; Output: 2S; ICC @ Nom Voltage(Max)(mA): 0.08; Bits(#): 4; F @ Nom Voltage(Max)(Mhz): 28; Rating: Military; Technology Family: HC; Voltage(Nom)(V): 3.3,5; Schmitt Trigger: No; Output Drive (IOL/IOH)(Max)(mA): 5.2/-5.2; Output Logic: Inverted,Non-inverted; tpd @ Nom Voltage(Max)(ns): 32; DatasheetVersion: SCLS299D; PackageReference: FK0020A; Input Type: CMOS; Operating Temperature Range(C): -55 to 125; 3-State Output: No; Code_JEDEC: MS-004; ComponentLink1Description: Manufacturer URL; ComponentLink1URL: http://www.ti.com/; ComponentLink2Description: Datasheet; ComponentLink2URL: http://www.ti.com/lit/ds/symlink/sn54hc175.pdf; ComponentLink3Description: Package Specification; ComponentLink3URL: http://www.ti.com/lit/ml/mlcc006d/mlcc006d.pdf
footprint FK0020A_N (LCC, 20-Leads, Body 8.9x8.9mm, Pitch 1.27mm, IPC Medium Density)
footprint FK0020A_M (LCC, 20-Leads, Body 8.9x8.9mm, Pitch 1.27mm, IPC Low Density)
footprint FK0020A_L (LCC, 20-Leads, Body 8.9x8.9mm, Pitch 1.27mm, IPC High Density)
part A pins: 2 CLR (in), 3 1Q (out), 4 1Q (out), 5 1D (in), 7 2D (in), 8 2Q (out), 9 2Q (out), 12 CLK (in), 13 3Q (out), 14 3Q (out), 15 3D (in), 17 4D (in), 18 4Q (out), 19 4Q (out)
part B pins: 10 GND (power), 20 VCC (power)
part C pins: 1 NC, 6 NC, 11 NC, 16 NC

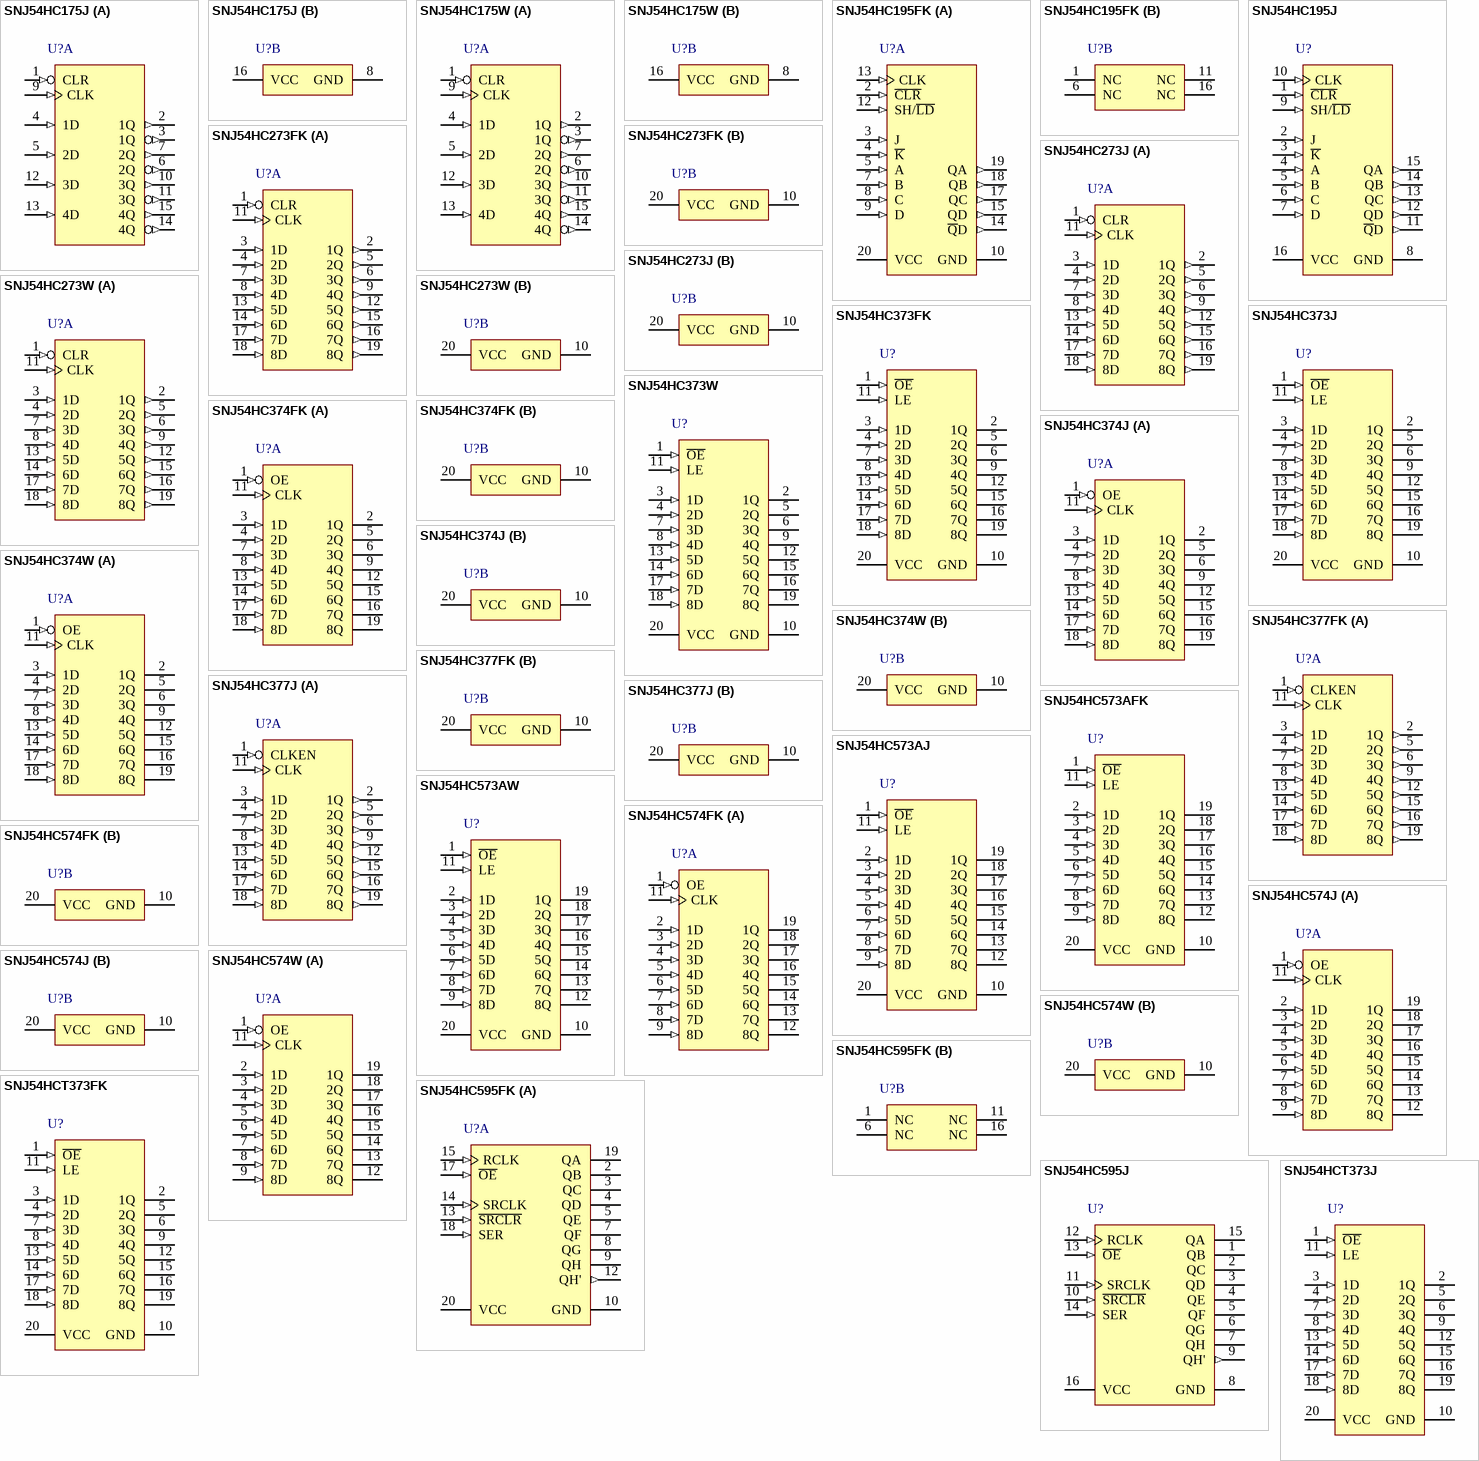
[diagram p132: symbols SNJ54HC175J to SNJ54HCT373J]

## SNJ54HC175J
designator U?
Quadruple D-type Flip-Flops With Clear, J0016A, TUBE; Generic Part Number: SN54HC175; Manufacturer: Texas Instruments; PartNumber: SNJ54HC175J; VCC(Min)(V): 2; VCC(Max)(V): 6; Output Type: CMOS; Output: 2S; ICC @ Nom Voltage(Max)(mA): 0.08; Bits(#): 4; F @ Nom Voltage(Max)(Mhz): 28; Rating: Military; Technology Family: HC; Voltage(Nom)(V): 3.3,5; Schmitt Trigger: No; Output Drive (IOL/IOH)(Max)(mA): 5.2/-5.2; Output Logic: Inverted,Non-inverted; tpd @ Nom Voltage(Max)(ns): 32; DatasheetVersion: SCLS299D; PackageReference: J0016A; Input Type: CMOS; Operating Temperature Range(C): -55 to 125; 3-State Output: No; ComponentLink1Description: Manufacturer URL; ComponentLink1URL: http://www.ti.com/; ComponentLink2Description: Datasheet; ComponentLink2URL: http://www.ti.com/lit/ds/symlink/sn54hc175.pdf; ComponentLink3Description: Package Specification; ComponentLink3URL: http://www.ti.com/lit/ml/mcer002d/mcer002d.pdf
footprint J0016A (DIP, 16-Leads, Body 21.35x7.2mm, Pitch 2.54mm)
part A pins: 1 CLR (in), 2 1Q (out), 3 1Q (out), 4 1D (in), 5 2D (in), 6 2Q (out), 7 2Q (out), 9 CLK (in), 10 3Q (out), 11 3Q (out), 12 3D (in), 13 4D (in), 14 4Q (out), 15 4Q (out)
part B pins: 8 GND (power), 16 VCC (power)

## SNJ54HC175W
designator U?
Quadruple D-type Flip-Flops With Clear, W0016A, TUBE; Generic Part Number: SN54HC175; Manufacturer: Texas Instruments; PartNumber: SNJ54HC175W; VCC(Min)(V): 2; VCC(Max)(V): 6; Output Type: CMOS; Output: 2S; ICC @ Nom Voltage(Max)(mA): 0.08; Bits(#): 4; F @ Nom Voltage(Max)(Mhz): 28; Rating: Military; Technology Family: HC; Voltage(Nom)(V): 3.3,5; Schmitt Trigger: No; Output Drive (IOL/IOH)(Max)(mA): 5.2/-5.2; Output Logic: Inverted,Non-inverted; tpd @ Nom Voltage(Max)(ns): 32; DatasheetVersion: SCLS299D; PackageReference: W0016A; Input Type: CMOS; Operating Temperature Range(C): -55 to 125; 3-State Output: No; ComponentLink1Description: Manufacturer URL; ComponentLink1URL: http://www.ti.com/; ComponentLink2Description: Datasheet; ComponentLink2URL: http://www.ti.com/lit/ds/symlink/sn54hc175.pdf; ComponentLink3Description: Package Specification; ComponentLink3URL: http://www.ti.com/lit/ml/mcfp004c/mcfp004c.pdf
footprint W0016A_N (CFP, 16-Leads, Body 10.92x7.24mm, Pitch 1.27mm, IPC Medium Density)
footprint W0016A_M (CFP, 16-Leads, Body 10.92x7.24mm, Pitch 1.27mm, IPC Low Density)
footprint W0016A_L (CFP, 16-Leads, Body 10.92x7.24mm, Pitch 1.27mm, IPC High Density)
part A pins: 1 CLR (in), 2 1Q (out), 3 1Q (out), 4 1D (in), 5 2D (in), 6 2Q (out), 7 2Q (out), 9 CLK (in), 10 3Q (out), 11 3Q (out), 12 3D (in), 13 4D (in), 14 4Q (out), 15 4Q (out)
part B pins: 8 GND (power), 16 VCC (power)

## SNJ54HC195FK
designator U?
4-Bit Parallel-Access Shift Registers, FK0020A, TUBE; Generic Part Number: SN54HC195; Manufacturer: Texas Instruments; PartNumber: SNJ54HC195FK; Technology Family: HC; Rating: Military; DatasheetVersion: SCLS124A; PackageReference: FK0020A; Operating Temperature Range(C): -55 to 125; Code_JEDEC: MS-004; ComponentLink1Description: Manufacturer URL; ComponentLink1URL: http://www.ti.com/; ComponentLink2Description: Datasheet; ComponentLink2URL: http://www.ti.com/lit/ds/symlink/sn54hc195.pdf; ComponentLink3Description: Package Specification; ComponentLink3URL: http://www.ti.com/lit/ml/mlcc006d/mlcc006d.pdf
footprint FK0020A_N (LCC, 20-Leads, Body 8.9x8.9mm, Pitch 1.27mm, IPC Medium Density)
footprint FK0020A_M (LCC, 20-Leads, Body 8.9x8.9mm, Pitch 1.27mm, IPC Low Density)
footprint FK0020A_L (LCC, 20-Leads, Body 8.9x8.9mm, Pitch 1.27mm, IPC High Density)
part A pins: 2 ~{CLR} (in), 3 J (in), 4 ~{K} (in), 5 A (in), 7 B (in), 8 C (in), 9 D (in), 10 GND (power), 12 SH/~{LD} (in), 13 CLK (in), 14 ~{Q}D (out), 15 QD (out), 17 QC (out), 18 QB (out), 19 QA (out), 20 VCC (power)
part B pins: 1 NC, 6 NC, 11 NC, 16 NC

## SNJ54HC195J
designator U?
4-Bit Parallel-Access Shift Registers, J0016A, TUBE; Generic Part Number: SN54HC195; Manufacturer: Texas Instruments; PartNumber: SNJ54HC195J; Technology Family: HC; Rating: Military; DatasheetVersion: SCLS124A; PackageReference: J0016A; Operating Temperature Range(C): -55 to 125; ComponentLink1Description: Manufacturer URL; ComponentLink1URL: http://www.ti.com/; ComponentLink2Description: Datasheet; ComponentLink2URL: http://www.ti.com/lit/ds/symlink/sn54hc195.pdf; ComponentLink3Description: Package Specification; ComponentLink3URL: http://www.ti.com/lit/ml/mcer002d/mcer002d.pdf
footprint J0016A (DIP, 16-Leads, Body 21.35x7.2mm, Pitch 2.54mm)
pins: 1 ~{CLR} (in), 2 J (in), 3 ~{K} (in), 4 A (in), 5 B (in), 6 C (in), 7 D (in), 8 GND (power), 9 SH/~{LD} (in), 10 CLK (in), 11 ~{Q}D (out), 12 QD (out), 13 QC (out), 14 QB (out), 15 QA (out), 16 VCC (power)

## SNJ54HC273FK
designator U?
Octal D-type Flip-Flops With Clear, FK0020A, TUBE; Generic Part Number: SN54HC273; Manufacturer: Texas Instruments; PartNumber: SNJ54HC273FK; VCC(Min)(V): 2; VCC(Max)(V): 6; Output Type: CMOS; Output: 2S; ICC @ Nom Voltage(Max)(mA): 0.08; Bits(#): 8; F @ Nom Voltage(Max)(Mhz): 28; Rating: Military; Technology Family: HC; Voltage(Nom)(V): 3.3,5; Schmitt Trigger: No; Output Drive (IOL/IOH)(Max)(mA): 5.2/-5.2; Output Logic: Non-inverted; tpd @ Nom Voltage(Max)(ns): 34; DatasheetVersion: SCLS136D; PackageReference: FK0020A; Input Type: CMOS; Operating Temperature Range(C): -55 to 125; 3-State Output: No; Code_JEDEC: MS-004; ComponentLink1Description: Manufacturer URL; ComponentLink1URL: http://www.ti.com/; ComponentLink2Description: Datasheet; ComponentLink2URL: http://www.ti.com/lit/ds/symlink/sn54hc273.pdf; ComponentLink3Description: Package Specification; ComponentLink3URL: http://www.ti.com/lit/ml/mlcc006d/mlcc006d.pdf
footprint FK0020A_N (LCC, 20-Leads, Body 8.9x8.9mm, Pitch 1.27mm, IPC Medium Density)
footprint FK0020A_M (LCC, 20-Leads, Body 8.9x8.9mm, Pitch 1.27mm, IPC Low Density)
footprint FK0020A_L (LCC, 20-Leads, Body 8.9x8.9mm, Pitch 1.27mm, IPC High Density)
part A pins: 1 CLR (in) "Clear Pin", 2 1Q (out) "1Q Output", 3 1D (in) "1D Input", 4 2D (in) "2D Input", 5 2Q (out) "2Q Output", 6 3Q (out) "3Q Output", 7 3D (in) "3D Input", 8 4D (in) "4D Input", 9 4Q (out) "4Q Output", 11 CLK (in) "Clock Pin", 12 5Q (out) "5Q Output", 13 5D (in) "5D Input", 14 6D (in) "6D Input", 15 6Q (out) "6Q Output", 16 7Q (out) "7Q Output", 17 7D (in) "7D Input", 18 8D (in) "8D Input", 19 8Q (out) "8Q Output"
part B pins: 10 GND (power) "Ground Pin", 20 VCC (power) "Power Pin"

## SNJ54HC273J
designator U?
Octal D-type Flip-Flops With Clear, J0020A, TUBE; Generic Part Number: SN54HC273; Manufacturer: Texas Instruments; PartNumber: SNJ54HC273J; VCC(Min)(V): 2; VCC(Max)(V): 6; Output Type: CMOS; Output: 2S; ICC @ Nom Voltage(Max)(mA): 0.08; Bits(#): 8; F @ Nom Voltage(Max)(Mhz): 28; Rating: Military; Technology Family: HC; Voltage(Nom)(V): 3.3,5; Schmitt Trigger: No; Output Drive (IOL/IOH)(Max)(mA): 5.2/-5.2; Output Logic: Non-inverted; tpd @ Nom Voltage(Max)(ns): 34; DatasheetVersion: SCLS136D; PackageReference: J0020A; Input Type: CMOS; Operating Temperature Range(C): -55 to 125; 3-State Output: No; ComponentLink1Description: Manufacturer URL; ComponentLink1URL: http://www.ti.com/; ComponentLink2Description: Datasheet; ComponentLink2URL: http://www.ti.com/lit/ds/symlink/sn54hc273.pdf; ComponentLink3Description: Package Specification; ComponentLink3URL: http://www.ti.com/lit/ml/mcer002d/mcer002d.pdf
footprint J0020A (DIP, 20-Leads, Body 26.9x7.2mm, Pitch 2.54mm)
part A pins: 1 CLR (in) "Clear Pin", 2 1Q (out) "1Q Output", 3 1D (in) "1D Input", 4 2D (in) "2D Input", 5 2Q (out) "2Q Output", 6 3Q (out) "3Q Output", 7 3D (in) "3D Input", 8 4D (in) "4D Input", 9 4Q (out) "4Q Output", 11 CLK (in) "Clock Pin", 12 5Q (out) "5Q Output", 13 5D (in) "5D Input", 14 6D (in) "6D Input", 15 6Q (out) "6Q Output", 16 7Q (out) "7Q Output", 17 7D (in) "7D Input", 18 8D (in) "8D Input", 19 8Q (out) "8Q Output"
part B pins: 10 GND (power) "Ground Pin", 20 VCC (power) "Power Pin"

## SNJ54HC273W
designator U?
Octal D-type Flip-Flops With Clear, W0020A, TUBE; Generic Part Number: SN54HC273; Manufacturer: Texas Instruments; PartNumber: SNJ54HC273W; VCC(Min)(V): 2; VCC(Max)(V): 6; Output Type: CMOS; Output: 2S; ICC @ Nom Voltage(Max)(mA): 0.08; Bits(#): 8; F @ Nom Voltage(Max)(Mhz): 28; Rating: Military; Technology Family: HC; Voltage(Nom)(V): 3.3,5; Schmitt Trigger: No; Output Drive (IOL/IOH)(Max)(mA): 5.2/-5.2; Output Logic: Non-inverted; tpd @ Nom Voltage(Max)(ns): 34; DatasheetVersion: SCLS136D; PackageReference: W0020A; Input Type: CMOS; Operating Temperature Range(C): -55 to 125; 3-State Output: No; ComponentLink1Description: Manufacturer URL; ComponentLink1URL: http://www.ti.com/; ComponentLink2Description: Datasheet; ComponentLink2URL: http://www.ti.com/lit/ds/symlink/sn54hc273.pdf; ComponentLink3Description: Package Specification; ComponentLink3URL: http://www.ti.com/lit/ml/mcfp006d/mcfp006d.pdf
footprint W0020A_N (CFP, 20-Leads, Body 13.72x7.62mm, Pitch 1.27mm, IPC Medium Density)
footprint W0020A_M (CFP, 20-Leads, Body 13.72x7.62mm, Pitch 1.27mm, IPC Low Density)
footprint W0020A_L (CFP, 20-Leads, Body 13.72x7.62mm, Pitch 1.27mm, IPC High Density)
part A pins: 1 CLR (in) "Clear Pin", 2 1Q (out) "1Q Output", 3 1D (in) "1D Input", 4 2D (in) "2D Input", 5 2Q (out) "2Q Output", 6 3Q (out) "3Q Output", 7 3D (in) "3D Input", 8 4D (in) "4D Input", 9 4Q (out) "4Q Output", 11 CLK (in) "Clock Pin", 12 5Q (out) "5Q Output", 13 5D (in) "5D Input", 14 6D (in) "6D Input", 15 6Q (out) "6Q Output", 16 7Q (out) "7Q Output", 17 7D (in) "7D Input", 18 8D (in) "8D Input", 19 8Q (out) "8Q Output"
part B pins: 10 GND (power) "Ground Pin", 20 VCC (power) "Power Pin"

## SNJ54HC373FK
designator U?
Octal D-type Transparent Latches With 3-State Outputs, FK0020A, TUBE; Generic Part Number: SN54HC373; Manufacturer: Texas Instruments; PartNumber: SNJ54HC373FK; VCC(Min)(V): 2; VCC(Max)(V): 6; Output Type: CMOS; Logic: True; ICC @ Nom Voltage(Max)(mA): 0.08; Bits(#): 8; F @ Nom Voltage(Max)(Mhz): 28; Rating: Military; Technology Family: HC; Schmitt Trigger: No; Output Drive (IOL/IOH)(Max)(mA): 7.8/-7.8; Output Logic: Non-inverted; 3-State Output: Yes; tpd @ Nom Voltage(Max)(ns): 32; DatasheetVersion: SCLS140D; PackageReference: FK0020A; Input Type: CMOS; Operating Temperature Range(C): -55 to 125; Code_JEDEC: MS-004; ComponentLink1Description: Manufacturer URL; ComponentLink1URL: http://www.ti.com/; ComponentLink2Description: Datasheet; ComponentLink2URL: http://www.ti.com/lit/ds/symlink/sn54hc373.pdf; ComponentLink3Description: Package Specification; ComponentLink3URL: http://www.ti.com/lit/ml/mlcc006d/mlcc006d.pdf
footprint FK0020A_N (LCC, 20-Leads, Body 8.9x8.9mm, Pitch 1.27mm, IPC Medium Density)
footprint FK0020A_M (LCC, 20-Leads, Body 8.9x8.9mm, Pitch 1.27mm, IPC Low Density)
footprint FK0020A_L (LCC, 20-Leads, Body 8.9x8.9mm, Pitch 1.27mm, IPC High Density)
pins: 1 ~{OE} (in) "Output Enable", 2 1Q (hiz) "1Q Output", 3 1D (in) "1D Input", 4 2D (in) "2D Input", 5 2Q (hiz) "2Q Output", 6 3Q (hiz) "3Q Output", 7 3D (in) "3D Input", 8 4D (in) "4D Input", 9 4Q (hiz) "4Q Output", 10 GND (power) "Ground Pin", 11 LE (in) "Latch Enable", 12 5Q (hiz) "5Q Output", 13 5D (in) "5D Input", 14 6D (in) "6D Input", 15 6Q (hiz) "6Q Output", 16 7Q (hiz) "7Q Output", 17 7D (in) "7D Input", 18 8D (in) "8D Input", 19 8Q (hiz) "8Q Output", 20 VCC (power) "Power Pin"

## SNJ54HC373J
designator U?
Octal D-type Transparent Latches With 3-State Outputs, J0020A, TUBE; Generic Part Number: SN54HC373; Manufacturer: Texas Instruments; PartNumber: SNJ54HC373J; VCC(Min)(V): 2; VCC(Max)(V): 6; Output Type: CMOS; Logic: True; ICC @ Nom Voltage(Max)(mA): 0.08; Bits(#): 8; F @ Nom Voltage(Max)(Mhz): 28; Rating: Military; Technology Family: HC; Schmitt Trigger: No; Output Drive (IOL/IOH)(Max)(mA): 7.8/-7.8; Output Logic: Non-inverted; 3-State Output: Yes; tpd @ Nom Voltage(Max)(ns): 32; DatasheetVersion: SCLS140D; PackageReference: J0020A; Input Type: CMOS; Operating Temperature Range(C): -55 to 125; ComponentLink1Description: Manufacturer URL; ComponentLink1URL: http://www.ti.com/; ComponentLink2Description: Datasheet; ComponentLink2URL: http://www.ti.com/lit/ds/symlink/sn54hc373.pdf; ComponentLink3Description: Package Specification; ComponentLink3URL: http://www.ti.com/lit/ml/mcer002d/mcer002d.pdf
footprint J0020A (DIP, 20-Leads, Body 26.9x7.2mm, Pitch 2.54mm)
pins: 1 ~{OE} (in) "Output Enable", 2 1Q (hiz) "1Q Output", 3 1D (in) "1D Input", 4 2D (in) "2D Input", 5 2Q (hiz) "2Q Output", 6 3Q (hiz) "3Q Output", 7 3D (in) "3D Input", 8 4D (in) "4D Input", 9 4Q (hiz) "4Q Output", 10 GND (power) "Ground Pin", 11 LE (in) "Latch Enable", 12 5Q (hiz) "5Q Output", 13 5D (in) "5D Input", 14 6D (in) "6D Input", 15 6Q (hiz) "6Q Output", 16 7Q (hiz) "7Q Output", 17 7D (in) "7D Input", 18 8D (in) "8D Input", 19 8Q (hiz) "8Q Output", 20 VCC (power) "Power Pin"

## SNJ54HC373W
designator U?
Octal D-type Transparent Latches With 3-State Outputs, W0020A, TUBE; Generic Part Number: SN54HC373; Manufacturer: Texas Instruments; PartNumber: SNJ54HC373W; VCC(Min)(V): 2; VCC(Max)(V): 6; Output Type: CMOS; Logic: True; ICC @ Nom Voltage(Max)(mA): 0.08; Bits(#): 8; F @ Nom Voltage(Max)(Mhz): 28; Rating: Military; Technology Family: HC; Schmitt Trigger: No; Output Drive (IOL/IOH)(Max)(mA): 7.8/-7.8; Output Logic: Non-inverted; 3-State Output: Yes; tpd @ Nom Voltage(Max)(ns): 32; DatasheetVersion: SCLS140D; PackageReference: W0020A; Input Type: CMOS; Operating Temperature Range(C): -55 to 125; ComponentLink1Description: Manufacturer URL; ComponentLink1URL: http://www.ti.com/; ComponentLink2Description: Datasheet; ComponentLink2URL: http://www.ti.com/lit/ds/symlink/sn54hc373.pdf; ComponentLink3Description: Package Specification; ComponentLink3URL: http://www.ti.com/lit/ml/mcfp006d/mcfp006d.pdf
footprint W0020A_N (CFP, 20-Leads, Body 13.72x7.62mm, Pitch 1.27mm, IPC Medium Density)
footprint W0020A_M (CFP, 20-Leads, Body 13.72x7.62mm, Pitch 1.27mm, IPC Low Density)
footprint W0020A_L (CFP, 20-Leads, Body 13.72x7.62mm, Pitch 1.27mm, IPC High Density)
pins: 1 ~{OE} (in) "Output Enable", 2 1Q (hiz) "1Q Output", 3 1D (in) "1D Input", 4 2D (in) "2D Input", 5 2Q (hiz) "2Q Output", 6 3Q (hiz) "3Q Output", 7 3D (in) "3D Input", 8 4D (in) "4D Input", 9 4Q (hiz) "4Q Output", 10 GND (power) "Ground Pin", 11 LE (in) "Latch Enable", 12 5Q (hiz) "5Q Output", 13 5D (in) "5D Input", 14 6D (in) "6D Input", 15 6Q (hiz) "6Q Output", 16 7Q (hiz) "7Q Output", 17 7D (in) "7D Input", 18 8D (in) "8D Input", 19 8Q (hiz) "8Q Output", 20 VCC (power) "Power Pin"

## SNJ54HC374FK
designator U?
Octal D-type Edge-Triggered Flip-Flops With 3-State Outputs, FK0020A, TUBE; Generic Part Number: SN54HC374; Manufacturer: Texas Instruments; PartNumber: SNJ54HC374FK; VCC(Min)(V): 2; VCC(Max)(V): 6; Output Type: CMOS; ICC @ Nom Voltage(Max)(mA): 0.08; Bits(#): 8; F @ Nom Voltage(Max)(Mhz): 28; Rating: Military; Technology Family: HC; Voltage(Nom)(V): 3.3,5; Schmitt Trigger: No; Output Drive (IOL/IOH)(Max)(mA): 7.8/-7.8; Output Logic: Non-inverted; 3-State Output: Yes; tpd @ Nom Voltage(Max)(ns): 38; DatasheetVersion: SCLS141E; PackageReference: FK0020A; Input Type: CMOS; Operating Temperature Range(C): -55 to 125; Code_JEDEC: MS-004; ComponentLink1Description: Manufacturer URL; ComponentLink1URL: http://www.ti.com/; ComponentLink2Description: Datasheet; ComponentLink2URL: http://www.ti.com/lit/ds/symlink/sn54hc374.pdf; ComponentLink3Description: Package Specification; ComponentLink3URL: http://www.ti.com/lit/ml/mlcc006d/mlcc006d.pdf
footprint FK0020A_N (LCC, 20-Leads, Body 8.9x8.9mm, Pitch 1.27mm, IPC Medium Density)
footprint FK0020A_M (LCC, 20-Leads, Body 8.9x8.9mm, Pitch 1.27mm, IPC Low Density)
footprint FK0020A_L (LCC, 20-Leads, Body 8.9x8.9mm, Pitch 1.27mm, IPC High Density)
part A pins: 1 OE (in), 2 1Q (hiz), 3 1D (in), 4 2D (in), 5 2Q (hiz), 6 3Q (hiz), 7 3D (in), 8 4D (in), 9 4Q (hiz), 11 CLK (in), 12 5Q (hiz), 13 5D (in), 14 6D (in), 15 6Q (hiz), 16 7Q (hiz), 17 7D (in), 18 8D (in), 19 8Q (hiz)
part B pins: 10 GND (power), 20 VCC (power)

## SNJ54HC374J
designator U?
Octal D-type Edge-Triggered Flip-Flops With 3-State Outputs, J0020A, TUBE; Generic Part Number: SN54HC374; Manufacturer: Texas Instruments; PartNumber: SNJ54HC374J; VCC(Min)(V): 2; VCC(Max)(V): 6; Output Type: CMOS; ICC @ Nom Voltage(Max)(mA): 0.08; Bits(#): 8; F @ Nom Voltage(Max)(Mhz): 28; Rating: Military; Technology Family: HC; Voltage(Nom)(V): 3.3,5; Schmitt Trigger: No; Output Drive (IOL/IOH)(Max)(mA): 7.8/-7.8; Output Logic: Non-inverted; 3-State Output: Yes; tpd @ Nom Voltage(Max)(ns): 38; DatasheetVersion: SCLS141E; PackageReference: J0020A; Input Type: CMOS; Operating Temperature Range(C): -55 to 125; ComponentLink1Description: Manufacturer URL; ComponentLink1URL: http://www.ti.com/; ComponentLink2Description: Datasheet; ComponentLink2URL: http://www.ti.com/lit/ds/symlink/sn54hc374.pdf; ComponentLink3Description: Package Specification; ComponentLink3URL: http://www.ti.com/lit/ml/mcer002d/mcer002d.pdf
footprint J0020A (DIP, 20-Leads, Body 26.9x7.2mm, Pitch 2.54mm)
part A pins: 1 OE (in), 2 1Q (hiz), 3 1D (in), 4 2D (in), 5 2Q (hiz), 6 3Q (hiz), 7 3D (in), 8 4D (in), 9 4Q (hiz), 11 CLK (in), 12 5Q (hiz), 13 5D (in), 14 6D (in), 15 6Q (hiz), 16 7Q (hiz), 17 7D (in), 18 8D (in), 19 8Q (hiz)
part B pins: 10 GND (power), 20 VCC (power)

## SNJ54HC374W
designator U?
Octal D-type Edge-Triggered Flip-Flops With 3-State Outputs, W0020A, TUBE; Generic Part Number: SN54HC374; Manufacturer: Texas Instruments; PartNumber: SNJ54HC374W; VCC(Min)(V): 2; VCC(Max)(V): 6; Output Type: CMOS; ICC @ Nom Voltage(Max)(mA): 0.08; Bits(#): 8; F @ Nom Voltage(Max)(Mhz): 28; Rating: Military; Technology Family: HC; Voltage(Nom)(V): 3.3,5; Schmitt Trigger: No; Output Drive (IOL/IOH)(Max)(mA): 7.8/-7.8; Output Logic: Non-inverted; 3-State Output: Yes; tpd @ Nom Voltage(Max)(ns): 38; DatasheetVersion: SCLS141E; PackageReference: W0020A; Input Type: CMOS; Operating Temperature Range(C): -55 to 125; ComponentLink1Description: Manufacturer URL; ComponentLink1URL: http://www.ti.com/; ComponentLink2Description: Datasheet; ComponentLink2URL: http://www.ti.com/lit/ds/symlink/sn54hc374.pdf; ComponentLink3Description: Package Specification; ComponentLink3URL: http://www.ti.com/lit/ml/mcfp006d/mcfp006d.pdf
footprint W0020A_N (CFP, 20-Leads, Body 13.72x7.62mm, Pitch 1.27mm, IPC Medium Density)
footprint W0020A_M (CFP, 20-Leads, Body 13.72x7.62mm, Pitch 1.27mm, IPC Low Density)
footprint W0020A_L (CFP, 20-Leads, Body 13.72x7.62mm, Pitch 1.27mm, IPC High Density)
part A pins: 1 OE (in), 2 1Q (hiz), 3 1D (in), 4 2D (in), 5 2Q (hiz), 6 3Q (hiz), 7 3D (in), 8 4D (in), 9 4Q (hiz), 11 CLK (in), 12 5Q (hiz), 13 5D (in), 14 6D (in), 15 6Q (hiz), 16 7Q (hiz), 17 7D (in), 18 8D (in), 19 8Q (hiz)
part B pins: 10 GND (power), 20 VCC (power)

## SNJ54HC377FK
designator U?
Octal, Hex, And Quad D-type Flip-Flops With Clock Enable, FK0020A, TUBE; Generic Part Number: SN54HC377; Manufacturer: Texas Instruments; PartNumber: SNJ54HC377FK; VCC(Min)(V): 2; VCC(Max)(V): 6; Output Type: CMOS; Output: 2S; ICC @ Nom Voltage(Max)(mA): 0.08; Bits(#): 8; F @ Nom Voltage(Max)(Mhz): 28; Rating: Military; Technology Family: HC; Voltage(Nom)(V): 3.3,5; Schmitt Trigger: No; Output Drive (IOL/IOH)(Max)(mA): 5.2/-5.2; Output Logic: Non-inverted; tpd @ Nom Voltage(Max)(ns): 34; DatasheetVersion: SCLS307B; PackageReference: FK0020A; Input Type: CMOS; Operating Temperature Range(C): -55 to 125; 3-State Output: No; Code_JEDEC: MS-004; ComponentLink1Description: Manufacturer URL; ComponentLink1URL: http://www.ti.com/; ComponentLink2Description: Datasheet; ComponentLink2URL: http://www.ti.com/lit/ds/symlink/sn54hc377.pdf; ComponentLink3Description: Package Specification; ComponentLink3URL: http://www.ti.com/lit/ml/mlcc006d/mlcc006d.pdf
footprint FK0020A_N (LCC, 20-Leads, Body 8.9x8.9mm, Pitch 1.27mm, IPC Medium Density)
footprint FK0020A_M (LCC, 20-Leads, Body 8.9x8.9mm, Pitch 1.27mm, IPC Low Density)
footprint FK0020A_L (LCC, 20-Leads, Body 8.9x8.9mm, Pitch 1.27mm, IPC High Density)
part A pins: 1 CLKEN (in), 2 1Q (out), 3 1D (in), 4 2D (in), 5 2Q (out), 6 3Q (out), 7 3D (in), 8 4D (in), 9 4Q (out), 11 CLK (in), 12 5Q (out), 13 5D (in), 14 6D (in), 15 6Q (out), 16 7Q (out), 17 7D (in), 18 8D (in), 19 8Q (out)
part B pins: 10 GND (power), 20 VCC (power)

## SNJ54HC377J
designator U?
Octal, Hex, And Quad D-type Flip-Flops With Clock Enable, J0020A, TUBE; Generic Part Number: SN54HC377; Manufacturer: Texas Instruments; PartNumber: SNJ54HC377J; VCC(Min)(V): 2; VCC(Max)(V): 6; Output Type: CMOS; Output: 2S; ICC @ Nom Voltage(Max)(mA): 0.08; Bits(#): 8; F @ Nom Voltage(Max)(Mhz): 28; Rating: Military; Technology Family: HC; Voltage(Nom)(V): 3.3,5; Schmitt Trigger: No; Output Drive (IOL/IOH)(Max)(mA): 5.2/-5.2; Output Logic: Non-inverted; tpd @ Nom Voltage(Max)(ns): 34; DatasheetVersion: SCLS307B; PackageReference: J0020A; Input Type: CMOS; Operating Temperature Range(C): -55 to 125; 3-State Output: No; ComponentLink1Description: Manufacturer URL; ComponentLink1URL: http://www.ti.com/; ComponentLink2Description: Datasheet; ComponentLink2URL: http://www.ti.com/lit/ds/symlink/sn54hc377.pdf; ComponentLink3Description: Package Specification; ComponentLink3URL: http://www.ti.com/lit/ml/mcer002d/mcer002d.pdf
footprint J0020A (DIP, 20-Leads, Body 26.9x7.2mm, Pitch 2.54mm)
part A pins: 1 CLKEN (in), 2 1Q (out), 3 1D (in), 4 2D (in), 5 2Q (out), 6 3Q (out), 7 3D (in), 8 4D (in), 9 4Q (out), 11 CLK (in), 12 5Q (out), 13 5D (in), 14 6D (in), 15 6Q (out), 16 7Q (out), 17 7D (in), 18 8D (in), 19 8Q (out)
part B pins: 10 GND (power), 20 VCC (power)